# EAGLE library part RR_8X_A (library #PaJa_31)
Odporova sit - 8x - spol. vyvod
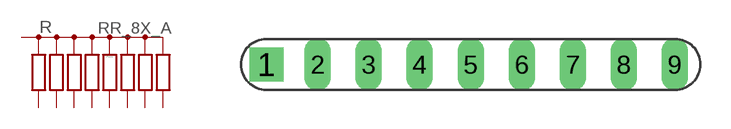
[diagram p32: symbol with the pads of RR_8X_A; footprint RR_8X_A]

Designator prefix R

## RR_8X_A  [RR_8X_A]
1  R  pas
2  R1  pas
3  R2  pas
4  R3  pas
5  R4  pas
6  R5  pas
7  R6  pas
8  R7  pas
9  R8  pas

## Footprint RR_8X_A (pad centres in mm)
drill 0.813 pad 1.676 square: 1 -10.16,0
drill 0.813 pad 1.27 long: 2 -7.62,0; 3 -5.08,0; 4 -2.54,0; 5 0,0; 6 2.54,0; 7 5.08,0; 8 7.62,0; 9 10.16,0